# Altium schematic symbol library picr22RobodendronMainboard.SchLib: 6 symbols
Pins are listed as number, name and electrical type; pins without a type are passive.

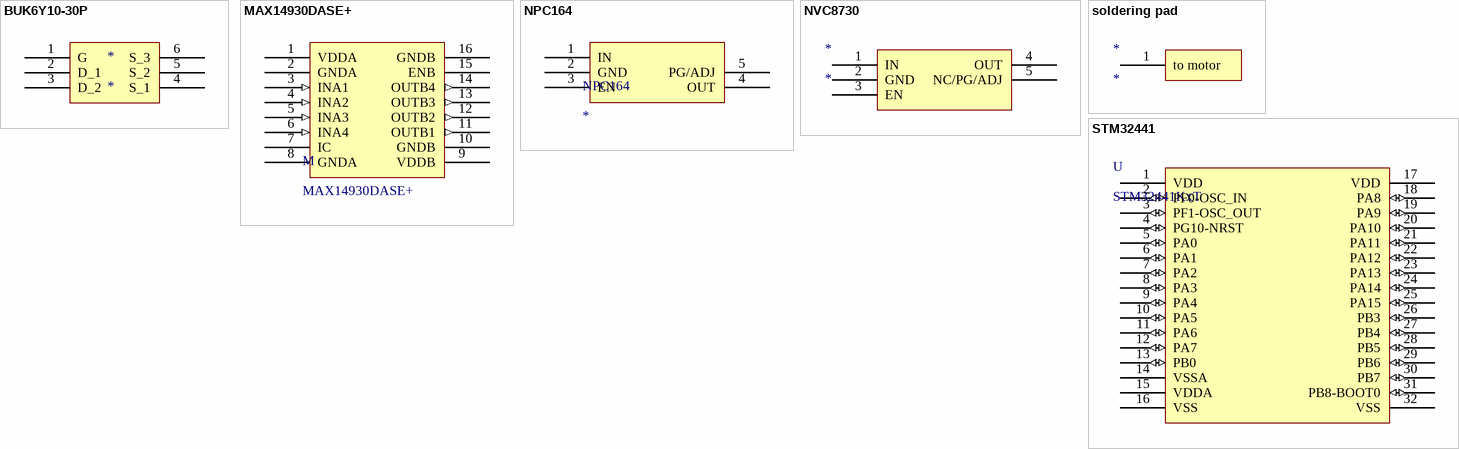
[diagram p0: symbols BUK6Y10-30P to STM32441]

## BUK6Y10-30P
designator *
pins: 1 G (power), 2 D_1 (power), 3 D_2 (power), 4 S_1 (power), 5 S_2 (power), 6 S_3 (power)

## MAX14930DASE+
designator M
footprint SOIC127P600X175-16N (SOIC, 16-Leads, Body 9,90x3,90mm, Pitch 1,27mm, IPC Medium Density)
pins: 1 VDDA (power), 2 GNDA (power), 3 INA1 (in), 4 INA2 (in), 5 INA3 (in), 6 INA4 (in), 7 IC, 8 GNDA (power), 9 VDDB (power), 10 GNDB (power), 11 OUTB1 (out), 12 OUTB2 (out), 13 OUTB3 (out), 14 OUTB4 (out), 15 ENB (power), 16 GNDB (power)

## NPC164
designator NPC164
footprint SOP95P275X110-5N
pins: 1 IN (power), 2 GND (power), 3 EN (power), 4 OUT (power), 5 PG/ADJ

## NVC8730
designator *
footprint SOT95P275X110-5N
pins: 1 IN (power), 2 GND (power), 3 EN (power), 4 OUT (power), 5 NC/PG/ADJ

## soldering pad
designator *
footprint PCBComponent_1
pins: 1 to motor (power)

## STM32441
designator U, comment STM32441KxT
footprint TQFP80P890X890X160-32N (TQFP, 32-Leads, Body 7,00x7,00mm, Pitch 0,80mm, IPC Medium Density)
pins: 1 VDD (power), 2 PF0-OSC_IN (io), 3 PF1-OSC_OUT (io), 4 PG10-NRST (io), 5 PA0 (io), 6 PA1 (io), 7 PA2 (io), 8 PA3 (io), 9 PA4 (io), 10 PA5 (io), 11 PA6 (io), 12 PA7 (io), 13 PB0 (io), 14 VSSA (power), 15 VDDA (power), 16 VSS (power), 17 VDD (power), 18 PA8 (io), 19 PA9 (io), 20 PA10 (io), 21 PA11 (io), 22 PA12 (io), 23 PA13 (io), 24 PA14 (io), 25 PA15 (io), 26 PB3 (io), 27 PB4 (io), 28 PB5 (io), 29 PB6 (io), 30 PB7 (io), 31 PB8-BOOT0 (io), 32 VSS (power)